# EAGLE library part 5-794620-4 (library con-tyco-micro-mate-n-lok2)
Through Hole 24pos 2row
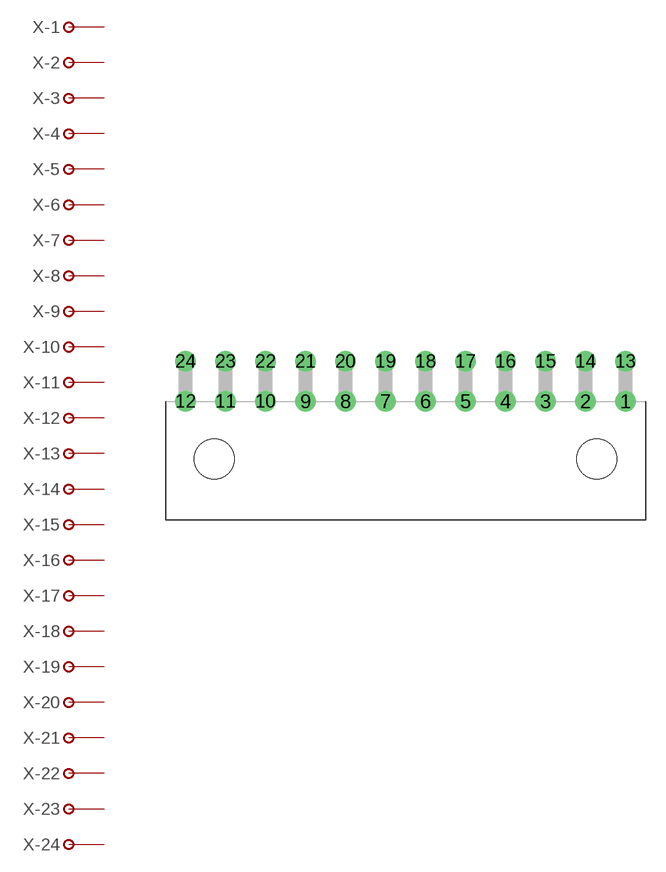
[diagram p3: symbol with the pads of THROUGH_VERTICAL_12X2; footprint THROUGH_VERTICAL_12X2]

Designator prefix X; gates -1=PIN -2=PIN -3=PIN -4=PIN -5=PIN -6=PIN -7=PIN -8=PIN -9=PIN -10=PIN -11=PIN -12=PIN -13=PIN -14=PIN -15=PIN -16=PIN -17=PIN -18=PIN -19=PIN -20=PIN -21=PIN -22=PIN -23=PIN -24=PIN

## 5-794620-4  [THROUGH_VERTICAL_12X2]
1  -1:P$1
2  -2:P$1
3  -3:P$1
4  -4:P$1
5  -5:P$1
6  -6:P$1
7  -7:P$1
8  -8:P$1
9  -9:P$1
10  -10:P$1
11  -11:P$1
12  -12:P$1
13  -13:P$1
14  -14:P$1
15  -15:P$1
16  -16:P$1
17  -17:P$1
18  -18:P$1
19  -19:P$1
20  -20:P$1
21  -21:P$1
22  -22:P$1
23  -23:P$1
24  -24:P$1

## Footprint THROUGH_VERTICAL_12X2 (pad centres in mm)
drill 1: 1 16.5,0; 2 13.5,0; 3 10.5,0; 4 7.5,0; 5 4.5,0; 6 1.5,0; 7 -1.5,0; 8 -4.5,0; 9 -7.5,0; 10 -10.5,0; 11 -13.5,0; 12 -16.5,0; 13 16.5,3; 14 13.5,3; 15 10.5,3; 16 7.5,3; 17 4.5,3; 18 1.5,3; 19 -1.5,3; 20 -4.5,3; 21 -7.5,3; 22 -10.5,3; 23 -13.5,3; 24 -16.5,3
hole 3 at 14.35,-4.32
hole 3 at -14.35,-4.32